# Altium footprint library ICS-43432.PcbLib: 1 footprints
Each footprint in its own frame and in the unit in brackets; x right, y up, seen from the top. Pads: shape width x height; smd on the part's side, far side on the other; paste and mask are expansions set on the pad; w line width, h text height; cw(c..) or ccw(c..) is an arc to the next point about the centre after c.
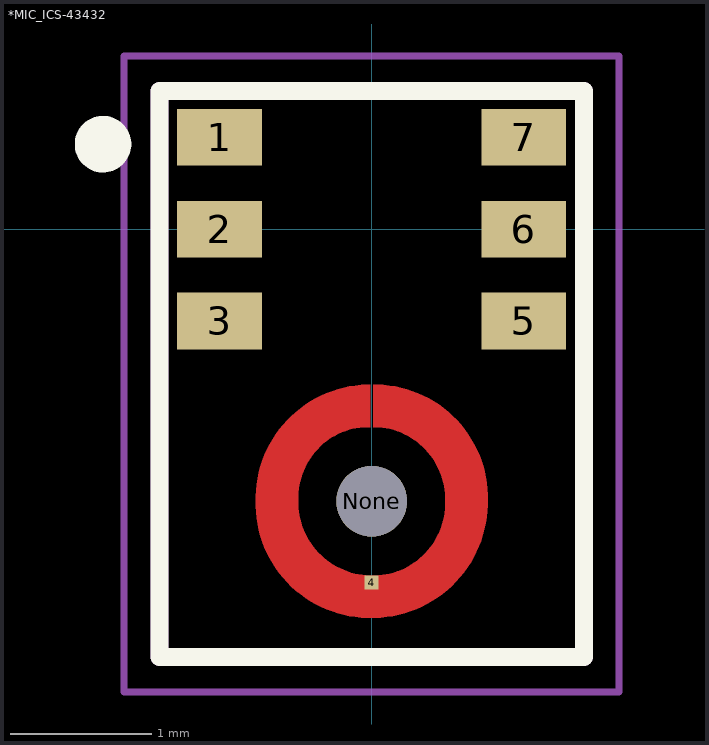
[diagram p0: the footprint, top view; thin cyan lines are the x and y axes]

## *MIC_ICS-43432 [mm]
pads (8):
  rect 0.6x0.4 smd: 1(-1.075,0.65) 2(-1.075,0) 3(-1.075,-0.65) 5(1.075,-0.65) 6(1.075,0) 7(1.075,0.65)
  rect 0.1x0.1 smd: 4(0,-2.5)
  round 0.5 hole 0.5 unplated: None(0,-1.925)
Top Layer:
  region: 259 vertices and 0 holes, not listed, extent -0.82,-2.75 0.82,-1.1
Top Overlay:
  circle w0.2: c-1.9,0.6 r0.1
  lines w0.127: -1.5,-3.025 1.5,-3.025 1.5,0.975 -1.5,0.975 -1.5,-3.025
Top Paste:
  drawing of 10 lines, arcs and shapes, not listed
Top Solder:
  circle w0.5: c0,-1.925 r0.67
Mechanical 13:
  lines w0.127: -1.5,-3.025 1.5,-3.025 ; -1.5,-3.025 -1.5,0.975 ; -1.5,-3.025 1.5,-3.025 ; -1.5,-3.025 -1.5,0.975 ; -1.5,0.975 1.5,0.975 ; -1.5,0.975 1.5,0.975 ; 1.5,-3.025 1.5,0.975 ; 1.5,-3.025 1.5,0.975
Mechanical 15:
  lines w0.05: -1.75,-3.275 1.75,-3.275 1.75,1.225 -1.75,1.225 -1.75,-3.275